# Altium schematic symbol library NPM1100-CAAA-R.SchLib: 1 symbol
Pins are listed as number, name and electrical type; pins without a type are passive.

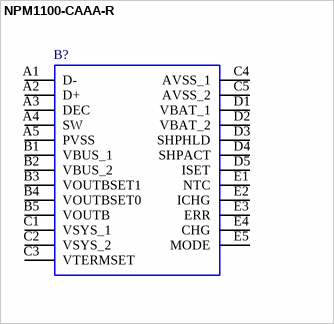
[diagram p0: symbol NPM1100-CAAA-R]

## NPM1100-CAAA-R
designator B?
NPM1100 POWER MANAGEMENT IC; Manufacturer_Name: Nordic Semiconductor; Geometry.Height: 0.522mm; Manufacturer_Part_Number: NPM1100-CAAA-R; Mouser Part Number: 949-NPM1100-CAAA-R; Mouser Price/Stock: https://www.mouser.co.uk/ProductDetail/Nordic-Semiconductor/nPM1100-CAAA-R?qs=TuK3vfAjtkX6Y1svXvOxyA%3D%3D; Arrow Part Number: NPM1100-CAAA-R; Arrow Price/Stock: https://www.arrow.com/en/products/npm1100-caaa-r/nordic-semiconductor?region=nac; Mouser Testing Part Number: *; Mouser Testing Price/Stock: *; Datasheet Link: https://infocenter.nordicsemi.com/pdf/nPM1100_PS_v1.0.pdf
footprint BGA25C40P5X5_208X208X52
pins: A1 D-, A2 D+, A3 DEC, A4 SW, A5 PVSS, B1 VBUS_1, B2 VBUS_2, B3 VOUTBSET1, B4 VOUTBSET0, B5 VOUTB, C1 VSYS_1, C2 VSYS_2, C3 VTERMSET, C4 AVSS_1, C5 AVSS_2, D1 VBAT_1, D2 VBAT_2, D3 SHPHLD, D4 SHPACT, D5 ISET, E1 NTC, E2 ICHG, E3 ERR, E4 CHG, E5 MODE